# EAGLE library part AD8616 (library motorFeedback)
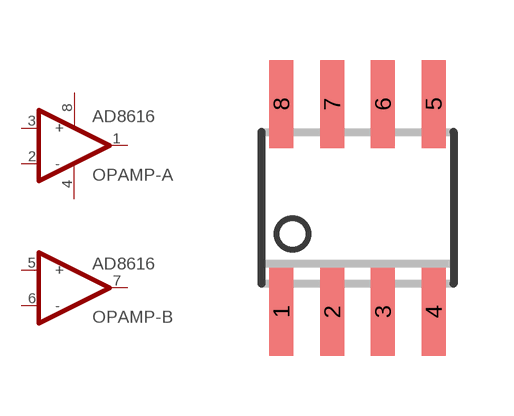
[diagram p27: symbol with the pads of SOIC8; footprint SOIC8]

Designator prefix OPAMP; gates -A=AD8616 -B=AD861X

## AD8616R-8  [SOIC8]
1  -A:OUT_A  out
2  -A:-  in
3  -A:+  in
4  -A:V-  sup
5  -B:+
6  -B:-
7  -B:OUT_B
8  -A:V+  sup

## Footprint SOIC8 (pad centres in mm)
Small Outline IC
smd 0.6 x 2.2: 1 -1.905,-2.6; 2 -0.635,-2.6; 3 0.635,-2.6; 4 1.905,-2.6; 5 1.905,2.6; 6 0.635,2.6; 7 -0.635,2.6; 8 -1.905,2.6